# Altium schematic symbol library MMT_Resistors.SchLib: 82 symbols
Pins are listed as number, name and electrical type; pins without a type are passive.

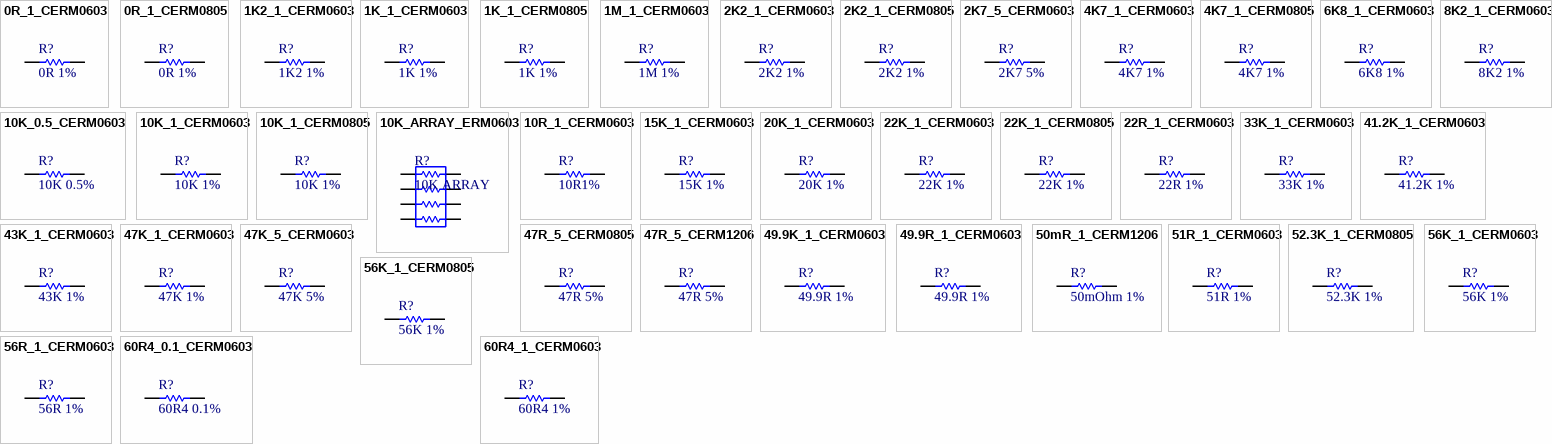
[diagram p0: symbols 0R_1_CERM0603 to 60R4_1_CERM0603]

## 0R_1_CERM0603
designator R?, comment 0R 1%
RES 0 OHM 1/10W 1% 0603 SMD; Part Number: RC0603FR-070RL; Manufacturer: Yageo; VN Price: 36; Voltage/Wattage: 100mW; Ex Price: 0.005; VN Supplier: https://thegioiic.com/products/dien-tro-0-ohm-0603-1; Value: 0R; Tolerance: 1%; Package: 0603 (1608 metric); Ex Supplier: https://www.mouser.vn/ProductDetail/Yageo/RC0603FR-070RL?qs=sGAEpiMZZMvdGkrng054tx7%2F6%252BNA3LAJbOjDgY8S7mQ%3D
footprint RES-SM-0603
pins: 1, 2

## 0R_1_CERM0805
designator R?, comment 0R 1%
RES 0 OHM 1/10W 1% 0805 SMD; Part Number: RC0805FR-070RL; Manufacturer: Yageo; VN Price: 50; Voltage/Wattage: 100mW; Ex Price: 0.009; VN Supplier: https://thegioiic.com/products/dien-tro-0-ohm-0805-1-; Value: 0R; Tolerance: 1%; Package: 0805 (2012 metric); Ex Supplier: https://www.mouser.vn/ProductDetail/Yageo/RC0805FR-070RL?qs=sGAEpiMZZMvdGkrng054tx7%2F6%252BNA3LAJ3XU3yVJUh88%3D
footprint RES-SM-0805
pins: 1, 2

## 1K2_1_CERM0603
designator R?, comment 1K2 1%
RES 1K 2OHM 1/10W 1% 0603 SMD; Part Number: AC0603FR-131K2L; Manufacturer: Yageo; VN Price: 36; Voltage/Wattage: 100mW; Ex Price: 0.1; VN Supplier: https://thegioiic.com/products/dien-tro-1-2k-ohm-0603-1; Value: 1K2; Tolerance: 1%; Package: 0603 (1608 metric); Ex Supplier: https://www.mouser.vn/ProductDetail/Yageo/AC0603FR-131K2L?qs=sGAEpiMZZMu61qfTUdNhG%2FMZXHif3NbI4gsqcVl%252BlvKz4x1EmarUjg%3D%3D
footprint RES-SM-0603
pins: 1, 2

## 1K_1_CERM0603
designator R?, comment 1K 1%
RES 1K OHM 1/10W 1% 0603 SMD; Part Number: AC0603FR-071KL; Manufacturer: Yageo; VN Price: 36; Voltage/Wattage: 100mW; Ex Price: 0.1; VN Supplier: https://thegioiic.com/products/dien-tro-1k-ohm-0603-1; Value: 1K; Tolerance: 1%; Package: 0603 (1608 metric); Ex Supplier: https://www.mouser.vn/ProductDetail/Yageo/AC0603FR-071KL?qs=sGAEpiMZZMtlubZbdhIBIOG3KwTtqrl%2FUZt%252B5hgA%252BDM%3D
footprint RES-SM-0603
pins: 1, 2

## 1K_1_CERM0805
designator R?, comment 1K 1%
RES 1K OHM 1/10W 1% 0805 SMD; Part Number: AA0805FR-071KL; Manufacturer: Yageo; VN Price: 50; Voltage/Wattage: 100mW; Ex Price: 0.1; VN Supplier: https://thegioiic.com/products/dien-tro-1k-ohm-0805-1; Value: 1K; Tolerance: 1%; Package: 0805 (2012 metric); Ex Supplier: https://www.mouser.vn/ProductDetail/Yageo/AA0805FR-071KL?qs=sGAEpiMZZMu61qfTUdNhG3tl7jjxf42uENLG1vBmZyipTIVDlM06hw%3D%3D
footprint RES-SM-0805
pins: 1, 2

## 1M_1_CERM0603
designator R?, comment 1M 1%
RES 1M OHM 1/10W 1% 0603 SMD; Part Number: RC0603FR-071ML; Manufacturer: Yageo; VN Price: 36; Voltage/Wattage: 100mW; Ex Price: 0.1; VN Supplier: https://thegioiic.com/products/dien-tro-1m-ohm-0603-1; Value: 1M; Tolerance: 1%; Package: 0603 (1608 metric); Ex Supplier: https://www.mouser.vn/ProductDetail/Yageo/RC0603FR-071ML?qs=sGAEpiMZZMu61qfTUdNhG5eFuApKbqVd5YtEsnCb1iw%3D
footprint RES-SM-0603
pins: 1, 2

## 2K2_1_CERM0603
designator R?, comment 2K2 1%
RES 2K2 OHM 1/10W 1% 0603 SMD; Part Number: AC0603FR-072K2L; Manufacturer: Yageo; VN Price: 36; Voltage/Wattage: 100mW; Ex Price: 0.1; VN Supplier: https://thegioiic.com/products/dien-tro-2-2k-ohm-0603-1; Value: 2K2; Tolerance: 1%; Package: 0603 (1608 metric); Ex Supplier: https://www.mouser.vn/ProductDetail/Yageo/AC0603FR-072K2L?qs=sGAEpiMZZMu61qfTUdNhG19HzxXL1i6ir83dlzp%2FQxU%3D
footprint RES-SM-0603
pins: 1, 2

## 2K2_1_CERM0805
designator R?, comment 2K2 1%
RES 2K2 OHM 1/10W 1% 0805 SMD; Part Number: RC0805FR-072K2L; Manufacturer: Yageo; VN Price: 50; Voltage/Wattage: 100mW; Ex Price: 0.12; VN Supplier: https://thegioiic.com/products/dien-tro-2-2k-ohm-0805-1; Value: 2K2; Tolerance: 1%; Package: 0805 (2012 metric); Ex Supplier: https://www.mouser.vn/ProductDetail/Yageo/RC0805FR-072K2L?qs=sGAEpiMZZMvdGkrng054t9EEHMEcefnuvPGvb%252BKLvVA%3D
footprint RES-SM-0805
pins: 1, 2

## 2K7_5_CERM0603
designator R?, comment 2K7 5%
RES 2K7 OHM 1/10W 5% 0603 SMD; Part Number: RC0603JR-072K7L; Manufacturer: Yageo; VN Price: 34; Voltage/Wattage: 100mW; Ex Price: 0.1; VN Supplier: https://thegioiic.com/products/dien-tro-2-7k-ohm-0603-5; Value: 2K7; Tolerance: 5%; Package: 0603 (1608 metric); Ex Supplier: https://www.mouser.vn/ProductDetail/Yageo/RC0603JR-072K7L?qs=sGAEpiMZZMu61qfTUdNhG5eFuApKbqVdG3WnDY66KrI%3D
footprint RES-SM-0603
pins: 1, 2

## 4K7_1_CERM0603
designator R?, comment 4K7 1%
RES 4K7 OHM 1/10W 1% 0603 SMD; Part Number: RC0603FR-074K7L; Manufacturer: Yageo; VN Price: 36; Voltage/Wattage: 100mW; Ex Price: 0.1; VN Supplier: https://thegioiic.com/products/dien-tro-4-7k-ohm-0603-1-; Value: 4K7; Tolerance: 1%; Package: 0603 (1608 metric); Ex Supplier: https://www.mouser.vn/ProductDetail/Yageo/RC0603FR-074K7L?qs=sGAEpiMZZMu61qfTUdNhG5eFuApKbqVdTnYbjySMIr8%3D
footprint RES-SM-0603
pins: 1, 2

## 4K7_1_CERM0805
designator R?, comment 4K7 1%
RES 4K7 OHM 1/10W 1% 0805 SMD; Part Number: RT0805FRE074K7L; Manufacturer: Yageo; VN Price: 50; Voltage/Wattage: 100mW; Ex Price: 0.12; VN Supplier: https://thegioiic.com/products/dien-tro-4-7k-ohm-0805-1; Value: 4K7; Tolerance: 1%; Package: 0805 (2012 metric); Ex Supplier: https://www.mouser.vn/ProductDetail/Yageo/RT0805FRE074K7L?qs=sGAEpiMZZMu61qfTUdNhG7XKrGAE6fxHgKwymD3Y2%252Bw%3D
footprint RES-SM-0805
pins: 1, 2

## 6K8_1_CERM0603
designator R?, comment 6K8 1%
RES 6K8 OHM 1/10W 1% 0603 SMD; Part Number: RC0603FR-106K8L; Manufacturer: Yageo; VN Price: 40; Voltage/Wattage: 100mW; Ex Price: 0.1; VN Supplier: https://www.thegioiic.com/products/dien-tro-6-8k-ohm-0603-1; Value: 6K8; Tolerance: 1%; Package: 0603 (1608 metric); Ex Supplier: https://www.mouser.vn/ProductDetail/Yageo/RC0603FR-106K8L?qs=sGAEpiMZZMvdGkrng054t%2FwbPuZfAgrPLFYLdloDxoU%3D
footprint RES-SM-0603
pins: 1, 2

## 8K2_1_CERM0603
designator R?, comment 8K2 1%
RES 8K2 OHM 1/10W 1% 0603 SMD; Part Number: RC0603FR-078K2L; Manufacturer: Yageo; VN Price: 40; Voltage/Wattage: 100mW; Ex Price: 0.1; VN Supplier: https://www.thegioiic.com/products/dien-tro-8-2-kohm-0603-1; Value: 8K2; Tolerance: 1%; Package: 0603 (1608 metric); Ex Supplier: https://www.mouser.vn/ProductDetail/Yageo/RC0603FR-078K2L?qs=sGAEpiMZZMvdGkrng054t3pr%252BPE%2FADjsXR6HcmGfNNM%3D
footprint RES-SM-0603
pins: 1, 2

## 10K_0.5_CERM0603
designator R?, comment 10K 0.5%
RES 10K OHM 1/10W 0.5% 0603 SMD; Part Number: RT0603DRE0710KL; Manufacturer: Yageo; Voltage/Wattage: 100mW; Ex Price: 0.11; Value: 10K; Tolerance: 0.5%; Package: 0603 (1608 metric); Ex Supplier: https://www.mouser.vn/ProductDetail/Yageo/RT0603DRE0710KL?qs=sGAEpiMZZMtlubZbdhIBILjYW2Gkblj8dYrT0Z0ApY0%3D
footprint RES-SM-0603
pins: 1, 2

## 10K_1_CERM0603
designator R?, comment 10K 1%
RES 10K OHM 1/10W 1% 0603 SMD; Part Number: RT0603FRE0710KL; Manufacturer: Yageo; VN Price: 36; Voltage/Wattage: 100mW; Ex Price: 0.1; VN Supplier: https://thegioiic.com/products/dien-tro-10k-ohm-0603-1; Value: 10K; Tolerance: 1%; Package: 0603 (1608 metric); Ex Supplier: https://www.mouser.vn/ProductDetail/Yageo/RT0603FRE0710KL?qs=sGAEpiMZZMtlubZbdhIBILjYW2Gkblj8rjAIWDJaTSM%3D
footprint RES-SM-0603
pins: 1, 2

## 10K_1_CERM0805
designator R?, comment 10K 1%
RES 10K OHM 1/10W 1% 0805 SMD; Part Number: RT0805FRE0710KL; Manufacturer: Yageo; VN Price: 50; Voltage/Wattage: 100mW; Ex Price: 0.12; VN Supplier: https://thegioiic.com/products/dien-tro-10k-ohm-0805-1; Value: 10K; Tolerance: 1%; Package: 0805 (2012 metric); Ex Supplier: https://www.mouser.vn/ProductDetail/Yageo/RT0805FRE0710KL?qs=sGAEpiMZZMu61qfTUdNhGxEjuuBLd0B41oWml1pU2QE%3D
footprint RES-SM-0805
pins: 1, 2

## 10K_ARRAY_ERM0603
designator R?, comment 10K ARRAY
Resistor Networks & Arrays 10K 1% CONVEX SQUARE 4X0603; Part Number: TC164-FR-0710KL; Manufacturer: Yageo; VN Price: 36; Voltage/Wattage: 100mW; Ex Price: 0.1; VN Supplier: https://thegioiic.com/products/dien-tro-10k-ohm-0603-1; Value: 10K; Tolerance: 1%; Package: 0603 (1608 metric); Ex Supplier: https://www.mouser.vn/ProductDetail/Yageo/TC164-FR-0710KL?qs=sGAEpiMZZMvrmc6UYKmaNd7pGS1VRT6X55bWuaFSlts%3D
footprint RES-ARRAY-4
pins: 1, 2, 3, 4, 5, 6, 7, 8

## 10R_1_CERM0603
designator R?, comment 10R1%
RES 10 OHM 1/10W 1% 0603 SMD; Part Number: AC0603FR-0710RL; Manufacturer: Yageo; VN Price: 36; Value: 10R; Voltage/Wattage: 100mW; Ex Price: 0.18; VN Supplier: https://thegioiic.com/products/dien-tro-10-ohm-0603-1; Tolerance: 1%; Package: 0603 (1608 metric); Ex Supplier: https://www.mouser.vn/ProductDetail/Yageo/AC0603FR-0710RL?qs=sGAEpiMZZMtlubZbdhIBIOG3KwTtqrl%2FjyYtvKfV%252Bxs%3D
footprint RES-SM-0603
pins: 1, 2

## 15K_1_CERM0603
designator R?, comment 15K 1%
RES 15K OHM 1/10W 1% 0603 SMD; Part Number: RT0603FRE1315KL; Manufacturer: Yageo; VN Price: 36; Voltage/Wattage: 100mW; Ex Price: 0.19; VN Supplier: https://thegioiic.com/products/dien-tro-15k-ohm-0603-1; Value: 15K; Tolerance: 1%; Package: 0603 (1608 metric); Ex Supplier: https://www.mouser.vn/ProductDetail/Yageo/RT0603FRE1315KL?qs=sGAEpiMZZMu61qfTUdNhGxEjuuBLd0B4ysKBXYMF8dQ%3D
footprint RES-SM-0603
pins: 1, 2

## 20K_1_CERM0603
designator R?, comment 20K 1%
RES 20K OHM 1/8W 1% 0603 SMD; Part Number: RC0603FR-0720KL; Manufacturer: Yageo; VN Price: 40; Voltage/Wattage: 125mW; Ex Price: 0.1; VN Supplier: https://www.thegioiic.com/products/dien-tro-20-kohm-0603-1; Value: 20K; Tolerance: 1%; Package: 0603 (1608 metric); Ex Supplier: https://www.mouser.vn/ProductDetail/Yageo/RC0603FR-0720KL?qs=sGAEpiMZZMvdGkrng054t3pr%252BPE%2FADjsNGcDwJdhVOU%3D
footprint RES-SM-0603
pins: 1, 2

## 22K_1_CERM0603
designator R?, comment 22K 1%
RES 22K OHM 1/8W 1% 0603 SMD; Part Number: ERJ-3EKF2202V; Manufacturer: Panasonic; VN Price: 40; Voltage/Wattage: 125mW; Ex Price: 0.1; VN Supplier: https://www.thegioiic.com/products/dien-tro-22k-ohm-0603-1; Value: 22K; Tolerance: 1%; Package: 0603 (1608 metric); Ex Supplier: https://www.mouser.vn/ProductDetail/Panasonic/ERJ-3EKF2202V?qs=sGAEpiMZZMvdGkrng054tx7%2F6%252BNA3LAJalxol1RpiBw%3D
footprint RES-SM-0603
pins: 1, 2

## 22K_1_CERM0805
designator R?, comment 22K 1%
RES 22K OHM 1/8W 1% 0805 SMD; Part Number: ERJ-6ENF2202V; Manufacturer: Panasonic; VN Price: 50; Voltage/Wattage: 125mW; Ex Price: 0.1; VN Supplier: https://thegioiic.com/products/dien-tro-22k-ohm-0805-1; Value: 22K; Tolerance: 1%; Package: 0805 (2012 mtric); Ex Supplier: https://www.mouser.vn/ProductDetail/Panasonic/ERJ-6ENF2202V?qs=sGAEpiMZZMvdGkrng054tw5%2FFYq5P%2FDoDU00YHoIPHw%3D
footprint RES-SM-0805
pins: 1, 2

## 22R_1_CERM0603
designator R?, comment 22R 1%
RES 22R OHM 1/10W 1% 0603 SMD; Part Number: RC0603FR-0722RL; Manufacturer: Yageo; VN Price: 36; Voltage/Wattage: 100mW; Ex Price: 0.1; VN Supplier: https://thegioiic.com/products/dien-tro-22-ohm-0603-1; Value: 22R; Tolerance: 1%; Package: 0603 (1608 metric); Ex Supplier: https://www.mouser.vn/ProductDetail/Yageo/RC0603FR-0722RL?qs=sGAEpiMZZMvdGkrng054t8Tx25L%252BvTaRjTEDGPLxll8%3D
footprint RES-SM-0603
pins: 1, 2

## 33K_1_CERM0603
designator R?, comment 33K 1%
RES 33K OHM 1/10W 1% 0603 SMD; Part Number: RC0603FR-0733KL; Manufacturer: Yageo; VN Price: 36; Voltage/Wattage: 100mW; Ex Price: 0.1; VN Supplier: https://thegioiic.com/products/dien-tro-33k-ohm-0603-1; Value: 33K; Tolerance: 1%; Package: 0603 (1608 metric); Ex Supplier: https://www.mouser.vn/ProductDetail/Yageo/RC0603FR-0733KL?qs=sGAEpiMZZMu61qfTUdNhG5eFuApKbqVdV6sPUrzO0aQ%3D
footprint RES-SM-0603
pins: 1, 2

## 41.2K_1_CERM0603
designator R?, comment 41.2K 1%
RES 41.2K OHM 1/10W 1% 0603 SMD; Part Number: RC0603FR-1041K2L; Manufacturer: Yageo; Voltage/Wattage: 100mW; Ex Price: 0.1; Value: 41.2K; Tolerance: 1%; Package: 0603 (1608 metric); Ex Supplier: https://www.mouser.vn/ProductDetail/Yageo/RC0603FR-1041K2L?qs=qpJ%252B%252B%252Bdg6p3hFK8vYoxtMQ%3D%3D
footprint RES-SM-0603
pins: 1, 2

## 43K_1_CERM0603
designator R?, comment 43K 1%
RES 43K OHM 1/10W 1% 0603 SMD; Part Number: RC0603FR-0743KL; Manufacturer: Yageo; Voltage/Wattage: 100mW; Ex Price: 0.1; Value: 43K; Tolerance: 1%; Package: 0603 (1608 metric); Ex Supplier: https://www.mouser.vn/ProductDetail/Yageo/RC0603FR-0743KL?qs=sGAEpiMZZMvdGkrng054t8Tx25L%252BvTaRkFGvG%2Fq1sv0%3D
footprint RES-SM-0603
pins: 1, 2

## 47K_1_CERM0603
designator R?, comment 47K 1%
RES 47K OHM 1/10W 1% 0603 SMD; Part Number: AC0603FR-0747KL; Manufacturer: Yageo; VN Price: 36; Voltage/Wattage: 100mW; Ex Price: 0.1; VN Supplier: https://thegioiic.com/products/dien-tro-47k-ohm-0603-1; Value: 47K; Tolerance: 1%; Package: 0603 (1608 metric); Ex Supplier: https://www.mouser.vn/ProductDetail/Yageo/AC0603FR-0747KL?qs=sGAEpiMZZMtlubZbdhIBINBo7nw4llFtxacZ8LVwvMc%3D
footprint RES-SM-0603
pins: 1, 2

## 47K_5_CERM0603
designator R?, comment 47K 5%
RES 47K OHM 1/10W 5% 0603 SMD; Part Number: ERJ-3GEYJ473V; Manufacturer: Panasonic; VN Price: 36; Voltage/Wattage: 100mW; Ex Price: 0.1; VN Supplier: https://thegioiic.com/products/dien-tro-47k-ohm-0603-1; Value: 47K; Tolerance: 5%; Package: 0603 (1608 metric); Ex Supplier: https://www.mouser.vn/ProductDetail/Panasonic/ERJ-3GEYJ473V?qs=sGAEpiMZZMu61qfTUdNhGzRxdwze5h8Zt6u5FYoHorI%3D
footprint RES-SM-0603
pins: 1, 2

## 47R_5_CERM0805
designator R?, comment 47R 5%
RES 47 OHM 1/10W 5% 0805 SMD; Part Number: RT0805FRE0747RL; Manufacturer: Yageo; VN Price: 40; Voltage/Wattage: 125mW; Ex Price: 0.12; VN Supplier: https://thegioiic.com/products/dien-tro-47-ohm-0805-5; Value: 47R; Tolerance: 5%; Package: 0805 (2012 metric); Ex Supplier: https://www.mouser.vn/ProductDetail/Yageo/RT0805FRE0747RL?qs=sGAEpiMZZMu61qfTUdNhG7%2FoSEXwZUWDlLxxqkdgTDw%3D
footprint RES-SM-0805
pins: 1, 2

## 47R_5_CERM1206
designator R?, comment 47R 5%
RES 47 OHM 1/10W 5% 1206 SMD; Part Number: RT1206FRE0747RL; Manufacturer: Yageo; VN Price: 76; Voltage/Wattage: 62.5mW; Ex Price: 0.19; VN Supplier: https://thegioiic.com/products/dien-tro-47-ohm-1206-5; Value: 47R; Tolerance: 5%; Package: 1206 (3216 metric); Ex Supplier: https://www.mouser.vn/ProductDetail/Yageo/RT1206FRE0747RL?qs=sGAEpiMZZMu61qfTUdNhG7%2FoSEXwZUWD80pjFpUgYLc%3D
footprint RES-SM-1206
pins: 1, 2

## 49.9K_1_CERM0603
designator R?, comment 49.9R 1%
RES 49.9K OHM 1/10W 1% 0603 SMD; Part Number: CPF0603F49K9C1; Manufacturer: TE Connectivity / Neohm; VN Price: 40; Voltage/Wattage: 125mW; Ex Price: 0.14; VN Supplier: https://www.thegioiic.com/products/dien-tro-49-9-kohm-0603-1; Value: 49.9K; Tolerance: 1%; Package: 0603 (1608 metric); Ex Supplier: https://www.mouser.vn/ProductDetail/TE-Connectivity-Neohm/CPF0603F49K9C1?qs=o1jQnaWw5FTEPfMvbXTXjQ%3D%3D
footprint RES-SM-0603
pins: 1, 2

## 49.9R_1_CERM0603
designator R?, comment 49.9R 1%
RES 49.9 OHM 1/10W 1% 0603 SMD; Part Number: RT0603FRD0749R9L; Manufacturer: Yageo; VN Price: 40; Voltage/Wattage: 125mW; Ex Price: 0.16; VN Supplier: https://www.thegioiic.com/products/dien-tro-49-9-ohm-0603-1; Value: 49.9R; Tolerance: 1%; Package: 0603 (1608 metric); Ex Supplier: https://www.mouser.vn/ProductDetail/Yageo/RT0603FRD0749R9L?qs=sGAEpiMZZMu61qfTUdNhG%2Ff6%2FsJcuVPBFou5O%2F7N5FzVVPvKnJkoHw%3D%3D
footprint RES-SM-0603
pins: 1, 2

## 50mR_1_CERM1206
designator R?, comment 50mOhm 1%
RES 50 mOHM 500mW 1% 1206 SMD; Part Number: KDV12FR050ET; Manufacturer: Ohmite; Ex Price: 0.1; Value: 50mOhm; Tolerance: 1%; Voltage/Wattage: 500mW; Package: 1206 (3216 metric); Ex Supplier: https://www.mouser.vn/ProductDetail/Ohmite/KDV12FR050ET?qs=sGAEpiMZZMvdGkrng054t7z4BkURc4LzmpK4I%2F1fA6sd%252BLs1VUJHng%3D%3D
footprint RES-SM-1206
pins: 1, 2

## 51R_1_CERM0603
designator R?, comment 51R 1%
RES 51 OHM 1/10W 1% 0603 SMD; Part Number: RC0603FR-0751RL; Manufacturer: Yageo; VN Price: 34; Voltage/Wattage: 100mW; Ex Price: 0.1; VN Supplier: https://thegioiic.com/products/dien-tro-51-ohm-0603-5; Value: 51R; Tolerance: 1%; Package: 0603 (1608 metric); Ex Supplier: https://www.mouser.vn/ProductDetail/Yageo/RC0603FR-0751RL?qs=sGAEpiMZZMu61qfTUdNhG5eFuApKbqVdiaQZYTuEmh8%3D
footprint RES-SM-0603
pins: 1, 2

## 52.3K_1_CERM0805
designator R?, comment 52.3K 1%
RES 52.3K OHM 1/8W 1% 0805 SMD; Part Number: RT0805FRE0752K3L; Manufacturer: Yageo; Voltage/Wattage: 125mW; Ex Price: 0.12; Value: 52.3K; Tolerance: 1%; Package: 0805 (2012 metric); Ex Supplier: https://www.mouser.vn/ProductDetail/Yageo/RT0805FRE0752K3L?qs=sGAEpiMZZMu61qfTUdNhG7%2FoSEXwZUWDgsGqm9SKTW8%3D
footprint RES-SM-0805
pins: 1, 2

## 56K_1_CERM0603
designator R?, comment 56K 1%
RES 56K OHM 1/10W 1% 0603 SMD; Part Number: AC0603FR-1356KL; Manufacturer: Yageo; VN Price: 40; Voltage/Wattage: 100mW; Ex Price: 0.10; VN Supplier: https://www.thegioiic.com/products/dien-tro-56k-ohm-0603-1; Value: 56K; Tolerance: 1%; Package: 0603 (1608 metric); Ex Supplier: https://www.mouser.vn/ProductDetail/Yageo/AC0603FR-1356KL?qs=sGAEpiMZZMvdGkrng054twlFPaARTH9FGagRoyH5U5W9MDzO1zi%2FNg%3D%3D
footprint RES-SM-0603
pins: 1, 2

## 56K_1_CERM0805
designator R?, comment 56K 1%
RES 56K OHM 1/10W 1% 0805 SMD; Part Number: AC0603FR-1356KL; Manufacturer: Yageo; VN Price: 50; Voltage/Wattage: 100mW; Ex Price: 0.10; VN Supplier: https://thegioiic.com/products/dien-tro-56k-ohm-0805-5; Value: 56K; Tolerance: 1%; Package: 0805 (2012 metric); Ex Supplier: https://www.mouser.vn/ProductDetail/Yageo/AC0603FR-1356KL?qs=sGAEpiMZZMvdGkrng054t7e9%2F3Fc9aBD5rY%252B0EwGpzm7vQU3nlU20g%3D%3D
footprint RES-SM-0805
pins: 1, 2

## 56R_1_CERM0603
designator R?, comment 56R 1%
RES 56 OHM 1/10W 1% 0603 SMD; Part Number: AC0603FR-0756RL; Manufacturer: Yageo; VN Price: 36; Voltage/Wattage: 100mW; Ex Price: 0.1; VN Supplier: https://thegioiic.com/products/dien-tro-56-ohm-0603-1; Value: 56R; Tolerance: 1%; Package: 0603 (1608 metric); Ex Supplier: https://www.mouser.vn/ProductDetail/Yageo/AC0603FR-0756RL?qs=sGAEpiMZZMtlubZbdhIBINBo7nw4llFtR2Mv3CYI3yI%3D
footprint RES-SM-0603
pins: 1, 2

## 60R4_0.1_CERM0603
designator R?, comment 60R4 0.1%
RES 60.4 OHM 1/10W 0.1% 0603 SMD; Part Number: ERA-3AEB60R4V; Manufacturer: Panasonic; Voltage/Wattage: 100mW; Ex Price: 0.35; Value: 60R4; Tolerance: 0.1%; Package: 0603 (1608 metric); Ex Supplier: https://www.mouser.vn/ProductDetail/Panasonic/ERA-3AEB60R4V?qs=sGAEpiMZZMu61qfTUdNhGzeCTBd%2FZfsoAbvYoorO%252BBU%3D
footprint RES-SM-0603
pins: 1, 2

## 60R4_1_CERM0603
designator R?, comment 60R4 1%
RES 60.4 OHM 1/10W 1% 0603 SMD; Part Number: RC0603FR-0760R4L; Manufacturer: Yageo; Voltage/Wattage: 100mW; Ex Price: 0.1; Value: 60R4; Tolerance: 1%; Package: 0603 (1608 metric); Ex Supplier: https://www.mouser.vn/ProductDetail/Yageo/RC0603FR-0760R4L?qs=sGAEpiMZZMu61qfTUdNhG4JucpvLNRyOEeLiezcR%252Brk%3D
footprint RES-SM-0603
pins: 1, 2

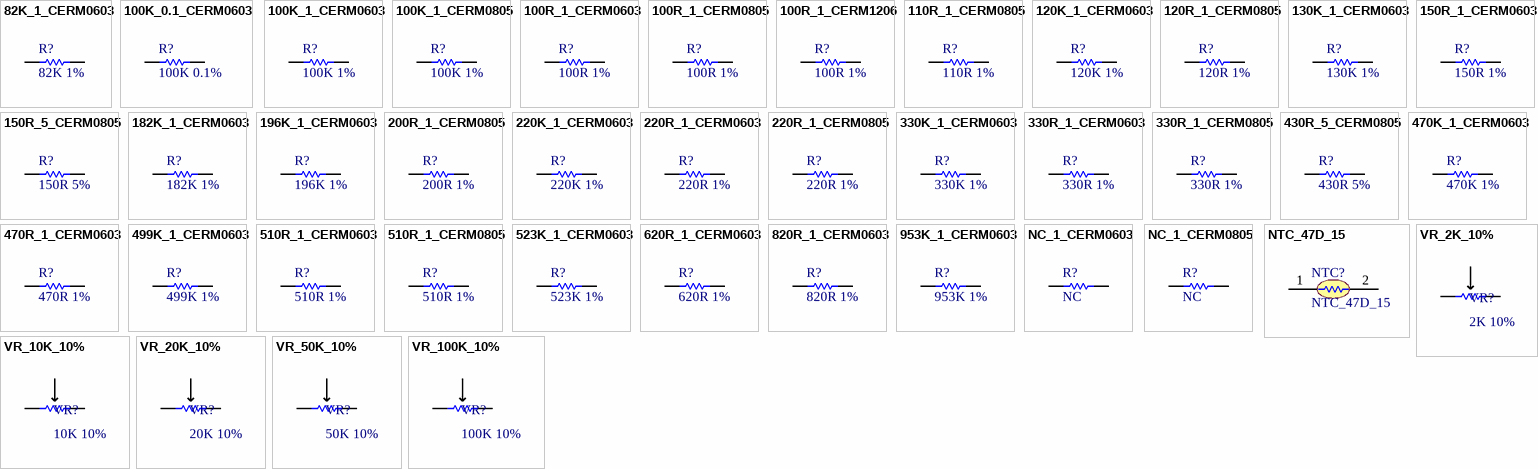
[diagram p1: symbols 82K_1_CERM0603 to VR_100K_10%]

## 82K_1_CERM0603
designator R?, comment 82K 1%
RES 82K OHM 1/10W 1% 0603 SMD; Part Number: RC0603FR-0782KL; Manufacturer: Yageo; VN Price: 40; Voltage/Wattage: 100mW; Ex Price: 0.10; VN Supplier: https://www.thegioiic.com/products/dien-tro-82k-ohm-0603-1; Value: 82K; Tolerance: 1%; Package: 0603 (1608 metric); Ex Supplier: https://www.mouser.vn/ProductDetail/Yageo/RC0603FR-0782KL?qs=sGAEpiMZZMvdGkrng054t0Ql6vgZwrVhQn6gfQaEhVI%3D
footprint RES-SM-0603
pins: 1, 2

## 100K_0.1_CERM0603
designator R?, comment 100K 0.1%
RES 100K OHM 1/10W 0.1% 0603 SMD; Part Number: ERA-3AEB104V; Manufacturer: Panasonic; Voltage/Wattage: 100mW; Ex Price: 0.62; Value: 100K; Tolerance: 0.1%; Package: 0603 (1608 metric); Ex Supplier: https://www.mouser.vn/ProductDetail/71-TNPW0805100KBEEA
footprint RES-SM-0603
pins: 1, 2

## 100K_1_CERM0603
designator R?, comment 100K 1%
RES 100K OHM 1/10W 1% 0603 SMD; Part Number: AC0603FR-07100KL; Manufacturer: Yageo; VN Price: 36; Voltage/Wattage: 100mW; Ex Price: 0.1; VN Supplier: https://thegioiic.com/products/dien-tro-100k-ohm-0603-1; Value: 100K; Tolerance: 1%; Package: 0603 (1608 metric); Ex Supplier: https://www.mouser.vn/ProductDetail/Yageo/AC0603FR-07100KL?qs=sGAEpiMZZMtlubZbdhIBIOG3KwTtqrl%2FwTAeuYTOFRQ%3D
footprint RES-SM-0603
pins: 1, 2

## 100K_1_CERM0805
designator R?, comment 100K 1%
RES 100K OHM 1/8W 1% 0805 SMD; Part Number: AC0805FR-7W100KL; Manufacturer: Yageo; VN Price: 40; Voltage/Wattage: 125mW; Ex Price: 0.1; VN Supplier: https://thegioiic.com/products/dien-tro-100k-ohm-0805-5; Value: 100K; Tolerance: 1%; Package: 0805 (2012 metric); Ex Supplier: https://www.mouser.vn/ProductDetail/Yageo/AC0805FR-7W100KL?qs=sGAEpiMZZMvdGkrng054t4v35oYz4BJEPMzT05iJdwKjULuWFXOnIA%3D%3D
footprint RES-SM-0805
pins: 1, 2

## 100R_1_CERM0603
designator R?, comment 100R 1%
RES 100 OHM 1/10W 1% 0603 SMD; Part Number: AC0603FR-13100RL; Manufacturer: Yageo; VN Price: 36; Voltage/Wattage: 100mW; Ex Price: 0.022; VN Supplier: https://thegioiic.com/products/dien-tro-100-ohm-0603-1; Value: 100R; Tolerance: 1%; Package: 0603 (1608 metric); Ex Supplier: https://www.mouser.vn/ProductDetail/Yageo/AC0603FR-13100RL?qs=sGAEpiMZZMu61qfTUdNhG%2FMZXHif3NbI5Fo%252BOTKdpSsQ1btQ5KnC4g%3D%3D
footprint RES-SM-0603
pins: 1, 2

## 100R_1_CERM0805
designator R?, comment 100R 1%
RES 100 OHM 1/10W 1% 0805 SMD; Part Number: CRCW0805100RFKEAC; Manufacturer: Vishay / Dale; VN Price: 36; Voltage/Wattage: 100mW; Ex Price: 0.1; VN Supplier: https://thegioiic.com/products/dien-tro-100-ohm-0603-1; Value: 100R; Tolerance: 1%; Package: 0805 (2012 metric); Ex Supplier: https://www.mouser.vn/ProductDetail/Vishay-Dale/CRCW0805100RFKEAC?qs=sGAEpiMZZMu61qfTUdNhG9bvwnXh9sSracpK%2FGa6jaWjEWD6SWXZlw%3D%3D
footprint RES-SM-0805
pins: 1, 2

## 100R_1_CERM1206
designator R?, comment 100R 1%
RES 100 OHM 1/4W 1% 1206 SMD; Part Number: AC1206FR-10100RL; Manufacturer: Yageo; VN Price: 116; Voltage/Wattage: 250mW; Ex Price: 0.11; VN Supplier: https://thegioiic.com/products/dien-tro-470-ohm-0603-1; Value: 100R; Tolerance: 1%; Package: 1206 (3216 metric); Ex Supplier: https://thegioiic.com/products/dien-tro-100-ohm-1206-1
footprint RES-SM-1206
pins: 1, 2

## 110R_1_CERM0805
designator R?, comment 110R 1%
RES 110 OHM 1/8W 1% 0805 SMD; Part Number: RT0805FRE07110RL; Manufacturer: Yageo; VN Price: 40; Voltage/Wattage: 125mW; Ex Price: 0.12; VN Supplier: https://thegioiic.com/products/dien-tro-110-ohm-0805-5; Value: 110R; Tolerance: 1%; Package: 0805 (2012 metric); Ex Supplier: https://www.mouser.vn/ProductDetail/Yageo/RT0805FRE07110RL?qs=sGAEpiMZZMtlubZbdhIBIK36V95%2FrXmtpVWy4wjIihM%3D
footprint RES-SM-0805
pins: 1, 2

## 120K_1_CERM0603
designator R?, comment 120K 1%
RES 120K OHM 1/10W 1% 0603 SMD; Part Number: ERJ-3EKF1203V; Manufacturer: Panasonic; VN Price: 36; Voltage/Wattage: 100mW; Ex Price: 0.1; VN Supplier: https://thegioiic.com/products/dien-tro-120k-ohm-0603-1; Value: 120K; Tolerance: 1%; Package: 0603 (1608 metric); Ex Supplier: https://www.mouser.vn/ProductDetail/Panasonic/ERJ-3EKF1203V?qs=sGAEpiMZZMu61qfTUdNhG6gKAQVNBKOoJBA6oYw2dr8%3D
footprint RES-SM-0603
pins: 1, 2

## 120R_1_CERM0805
designator R?, comment 120R 1%
RES 120 OHM 1/8W 1% 0805 SMD; Part Number: RC0805FR-07120RL; Manufacturer: Yageo; VN Price: 40; Voltage/Wattage: 125mW; Ex Price: 0.12; VN Supplier: https://thegioiic.com/products/dien-tro-120-ohm-0805-5; Value: 120R; Tolerance: 1%; Package: 0805 (2012 metric); Ex Supplier: https://www.mouser.vn/ProductDetail/Yageo/RC0805FR-07120RL?qs=sGAEpiMZZMvdGkrng054t8Tx25L%252BvTaRzcdZIgz1A9Y%3D
footprint RES-SM-0805
pins: 1, 2

## 130K_1_CERM0603
designator R?, comment 130K 1%
RES 130K OHM 1/10W 1% 0603 SMD; Part Number: ERJ-3EKF1303V; Manufacturer: Panasonic; VN Price: 36; Voltage/Wattage: 100mW; Ex Price: 0.1; VN Supplier: https://thegioiic.com/products/dien-tro-130k-ohm-0603-1; Value: 130K; Tolerance: 1%; Package: 0603 (1608 metric); Ex Supplier: https://www.mouser.vn/ProductDetail/Panasonic/ERJ-3EKF1303V?qs=sGAEpiMZZMu61qfTUdNhG6gKAQVNBKOou9ve2PmmvQo%3D
footprint RES-SM-0603
pins: 1, 2

## 150R_1_CERM0603
designator R?, comment 150R 1%
RES 150 OHM 1/10W 1% 0603 SMD; Part Number: RT0603FRE07150RL; Manufacturer: Yageo; VN Price: 36; Voltage/Wattage: 100mW; Ex Price: 0.19; VN Supplier: https://thegioiic.com/products/dien-tro-150-ohm-0603-1; Value: 150R; Tolerance: 1%; Package: 0603 (1608 metric); Ex Supplier: https://www.mouser.vn/ProductDetail/Yageo/RT0603FRE07150RL?qs=sGAEpiMZZMu61qfTUdNhGxEjuuBLd0B4O65COrQS694%3D
footprint RES-SM-0603
pins: 1, 2

## 150R_5_CERM0805
designator R?, comment 150R 5%
RES 150 OHM 1/10W 5% 0805 SMD; Part Number: RT0805FRE07150RL; Manufacturer: Yageo; VN Price: 40; Voltage/Wattage: 100mW; Ex Price: 0.12; VN Supplier: https://thegioiic.com/products/dien-tro-150-ohm-0805-5; Value: 150R; Tolerance: 5%; Package: 0805 (2012 metric); Ex Supplier: https://www.mouser.vn/ProductDetail/Yageo/RT0805FRE07150RL?qs=sGAEpiMZZMu61qfTUdNhGxEjuuBLd0B4fB5OA91vaXU%3D
footprint RES-SM-0805
pins: 1, 2

## 182K_1_CERM0603
designator R?, comment 182K 1%
RES 182K OHM 1/10W 1% 0603 SMD; Part Number: RC0603FR-07182KL; Manufacturer: Yageo; Voltage/Wattage: 100mW; Ex Price: 0.1; Value: 182K; Tolerance: 1%; Package: 0603 (1608 metric); Ex Supplier: https://www.mouser.vn/ProductDetail/Yageo/RC0603FR-07182KL?qs=sGAEpiMZZMvdGkrng054t8Tx25L%252BvTaRoShu0djGNWI%3D
footprint RES-SM-0603
pins: 1, 2

## 196K_1_CERM0603
designator R?, comment 196K 1%
RES 196K OHM 1/10W 1% 0603 SMD; Part Number: AC0603FR-07196KL; Manufacturer: Yageo; VN Price: 36; Voltage/Wattage: 100mW; Ex Price: 0.1; VN Supplier: https://thegioiic.com/products/dien-tro-196k-ohm-0805-1; Value: 196K; Tolerance: 1%; Package: 0603 (1608 metric); Ex Supplier: https://www.mouser.vn/ProductDetail/Yageo/AC0603FR-07196KL?qs=sGAEpiMZZMvdGkrng054t7zOzNqIRvGcDKAaRjA6DfA%3D
footprint RES-SM-0603
pins: 1, 2

## 200R_1_CERM0805
designator R?, comment 200R 1%
RES 200 OHM 1/10W 1% 0805 SMD; Part Number: RC0805FR-07200RL; Manufacturer: Yageo; VN Price: 40; Value: 150R; Voltage/Wattage: 125mW; Ex Price: 0.12; VN Supplier: https://thegioiic.com/products/dien-tro-200-ohm-0805-5; Tolerance: 1%; Package: 0805 (2012 metric); Ex Supplier: https://www.mouser.vn/ProductDetail/Yageo/RC0805FR-07200RL?qs=sGAEpiMZZMtlubZbdhIBIBEZimkhVqQ42eelWaFV0dg%3D
footprint RES-SM-0805
pins: 1, 2

## 220K_1_CERM0603
designator R?, comment 220K 1%
RES 220K OHM 1/10W 1% 0603 SMD; Part Number: RC0603FR-07220KL; Manufacturer: Yageo; VN Price: 40; Voltage/Wattage: 100mW; Ex Price: 0.1; VN Supplier: https://www.thegioiic.com/products/dien-tro-220k-ohm-0603-1; Value: 220K; Tolerance: 1%; Package: 0603 (1608 metric); Ex Supplier: https://www.mouser.vn/ProductDetail/Yageo/RC0603FR-07220KL?qs=sGAEpiMZZMvdGkrng054t0Ql6vgZwrVhHSe8oTGidPI%3D
footprint RES-SM-0603
pins: 1, 2

## 220R_1_CERM0603
designator R?, comment 220R 1%
RES 220 OHM 1/10W 1% 0603 SMD; Part Number: RC0603FR-07220RL; Manufacturer: Yageo; VN Price: 36; Voltage/Wattage: 100mW; Ex Price: 0.018; VN Supplier: https://thegioiic.com/products/dien-tro-220-ohm-0603-1; Value: 220R; Tolerance: 1%; Package: 0603 (1608 metric); Ex Supplier: https://www.mouser.vn/ProductDetail/Yageo/RC0603FR-07220RL?qs=sGAEpiMZZMu61qfTUdNhG5eFuApKbqVdAMojVXVlmuY%3D
footprint RES-SM-0603
pins: 1, 2

## 220R_1_CERM0805
designator R?, comment 220R 1%
RES 220 OHM 1/10W 1% 0805 SMD; Part Number: ERJ-6ENF2200V; Manufacturer: Panasonic; VN Price: 36; Voltage/Wattage: 100mW; Ex Price: 0.01; VN Supplier: https://thegioiic.com/products/dien-tro-220-ohm-0603-1; Value: 220R; Tolerance: 1%; Package: 0805 (2012 metric); Ex Supplier: https://www.mouser.vn/ProductDetail/Panasonic/ERJ-6ENF2200V?qs=sGAEpiMZZMu61qfTUdNhG6gKAQVNBKOoC6ge8UYY0eY%3D
footprint RES-SM-0805
pins: 1, 2

## 330K_1_CERM0603
designator R?, comment 330K 1%
RES 330K OHM 1/10W 1% 0603 SMD; Part Number: RC0603FR-07330KL; Manufacturer: Yageo; VN Price: 36; Voltage/Wattage: 100mW; Ex Price: 0.1; VN Supplier: https://thegioiic.com/products/dien-tro-330k-ohm-0603-1; Value: 330K; Tolerance: 1%; Package: 0603 (1608 metric); Ex Supplier: https://www.mouser.vn/ProductDetail/Yageo/RC0603FR-07330KL?qs=sGAEpiMZZMu61qfTUdNhG5eFuApKbqVd9EZ%2FRvE%2FTOk%3D
footprint RES-SM-0603
pins: 1, 2

## 330R_1_CERM0603
designator R?, comment 330R 1%
RES 330 OHM 1/10W 1% 0603 SMD; Part Number: AC0603FR-07330RL; Manufacturer: Yageo; VN Price: 36; Voltage/Wattage: 100mW; Ex Price: 0.022; VN Supplier: https://thegioiic.com/products/dien-tro-330-ohm-0603-1; Value: 330R; Tolerance: 1%; Package: 0603 (1608 metric); Ex Supplier: https://www.mouser.vn/ProductDetail/Yageo/AC0603FR-07330RL?qs=sGAEpiMZZMtlubZbdhIBINBo7nw4llFtXIi1au8fd4g%3D
footprint RES-SM-0603
pins: 1, 2

## 330R_1_CERM0805
designator R?, comment 330R 1%
RES 330 OHM 1/10W 1% 0805 SMD; Part Number: ERJ-6ENF3300V; Manufacturer: Panasonic; VN Price: 50; Voltage/Wattage: 100mW; Ex Price: 0.11; VN Supplier: https://thegioiic.com/products/dien-tro-330-ohm-0805-1; Value: 330R; Tolerance: 1%; Package: 0805 (2012 metric); Ex Supplier: https://www.mouser.vn/ProductDetail/Panasonic/ERJ-6ENF3300V?qs=sGAEpiMZZMu61qfTUdNhG6gKAQVNBKOod3JD8gTgVJA%3D
footprint RES-SM-0805
pins: 1, 2

## 430R_5_CERM0805
designator R?, comment 430R 5%
RES 430 OHM 1/10W 5% 0805 SMD; Part Number: ERJ-6GEYJ431V; Manufacturer: Panasonic; VN Price: 40; Voltage/Wattage: 100mW; Ex Price: 0.1; VN Supplier: https://thegioiic.com/products/dien-tro-430-ohm-0805-5; Value: 430R; Tolerance: 5%; Package: 0805 (2012 metric); Ex Supplier: https://www.mouser.vn/ProductDetail/Panasonic/ERJ-6GEYJ431V?qs=sGAEpiMZZMu61qfTUdNhG6gKAQVNBKOoylslA0N39ZE%3D
footprint RES-SM-0805
pins: 1, 2

## 470K_1_CERM0603
designator R?, comment 470K 1%
RES 470K OHM 1/10W 1% 0603 SMD; Part Number: AC0603FR-07470KL; Manufacturer: Yageo; VN Price: 36; Voltage/Wattage: 100mW; Ex Price: 0.1; VN Supplier: https://thegioiic.com/products/dien-tro-470k-ohm-0603-1; Value: 470K; Tolerance: 1%; Package: 0603 (1608 metric); Ex Supplier: https://www.mouser.vn/ProductDetail/Yageo/AC0603FR-07470KL?qs=sGAEpiMZZMtlubZbdhIBINBo7nw4llFtIuQwEGrhTBY%3D
footprint RES-SM-0603
pins: 1, 2

## 470R_1_CERM0603
designator R?, comment 470R 1%
RES 470 OHM 1/10W 1% 0603 SMD; Part Number: RC0603FR-07470RL; Manufacturer: Yageo; VN Price: 36; Voltage/Wattage: 100mW; Ex Price: 0.1; VN Supplier: https://thegioiic.com/products/dien-tro-470-ohm-0603-1; Value: 470R; Tolerance: 1%; Package: 0603 (1608 metric); Ex Supplier: https://www.mouser.vn/ProductDetail/Yageo/RC0603FR-07470RL?qs=sGAEpiMZZMu61qfTUdNhG5eFuApKbqVduZgyRcGeh7I%3D
footprint RES-SM-0603
pins: 1, 2

## 499K_1_CERM0603
designator R?, comment 499K 1%
RES 499K OHM 1/10W 1% 0603 SMD; Part Number: RC0603FR-07499KL; Manufacturer: Yageo; VN Price: 36; Voltage/Wattage: 100mW; Ex Price: 0.1; Value: 499K; Tolerance: 1%; Package: 0603 (1608 metric); Ex Supplier: https://www.mouser.vn/ProductDetail/Yageo/RC0603FR-07499KL?qs=sGAEpiMZZMvdGkrng054t8Tx25L%252BvTaRTh7mPDktNj0%3D
footprint RES-SM-0603
pins: 1, 2

## 510R_1_CERM0603
designator R?, comment 510R 1%
RES 510 OHM 1/10W 1% 0603 SMD; Part Number: RC0603FR-13510RL; Manufacturer: Yageo; VN Price: 50; Voltage/Wattage: 100mW; Ex Price: 0.12; VN Supplier: https://www.thegioiic.com/products/dien-tro-510-ohm-0603-1; Value: 510R; Tolerance: 1%; Package: 0603 (1608 metric); Ex Supplier: https://www.mouser.vn/ProductDetail/Yageo/RC0603FR-13510RL?qs=sGAEpiMZZMvdGkrng054tz1y1XEHv7sN1Q6262RU0wmIGhpik57Rug%3D%3D
footprint RES-SM-0603
pins: 1, 2

## 510R_1_CERM0805
designator R?, comment 510R 1%
RES 510 OHM 1/10W 1% 0805 SMD; Part Number: RC0805FR-07510RL; Manufacturer: Yageo; VN Price: 50; Voltage/Wattage: 100mW; Ex Price: 0.12; VN Supplier: https://thegioiic.com/products/dien-tro-510-ohm-0805-5; Value: 510R; Tolerance: 1%; Package: 0805 (2012 metric); Ex Supplier: https://www.mouser.vn/ProductDetail/Yageo/RC0805FR-07510RL?qs=sGAEpiMZZMvdGkrng054t8AJgcdMkx7x06kVse4iON8%3D
footprint RES-SM-0805
pins: 1, 2

## 523K_1_CERM0603
designator R?, comment 523K 1%
RES 523K OHM 1/10W 1% 0603 SMD; Part Number: RC0603FR-07523KL; Manufacturer: Yageo; VN Price: 36; Voltage/Wattage: 100mW; Ex Price: 0.005; Value: 523K; Tolerance: 1%; Package: 0603 (1608 metric); Ex Supplier: https://www.mouser.vn/ProductDetail/Yageo/RC0603FR-07523KL?qs=sGAEpiMZZMvdGkrng054t5AEBFBrDLdDeP1a%252BWLd3%252Bo%3D
footprint RES-SM-0603
pins: 1, 2

## 620R_1_CERM0603
designator R?, comment 620R 1%
RES 620 OHM 1/10W 1% 0603 SMD; Part Number: RC0603FR-07620RL; Manufacturer: Yageo; VN Price: 50; Voltage/Wattage: 100mW; Ex Price: 0.1; VN Supplier: https://thegioiic.com/products/dien-tro-620-ohm-0805-1; Value: 620R; Tolerance: 1%; Package: 0603 (1608 metric); Ex Supplier: https://www.mouser.vn/ProductDetail/Yageo/RC0603FR-07620RL?qs=sGAEpiMZZMvdGkrng054t8Tx25L%252BvTaRnWoVxSfn71c%3D
footprint RES-SM-0603
pins: 1, 2

## 820R_1_CERM0603
designator R?, comment 820R 1%
RES 820 OHM 1/10W 1% 0603 SMD; Part Number: AC0603FR-13820RL; Manufacturer: Yageo; VN Price: 50; Voltage/Wattage: 100mW; Ex Price: 0.1; VN Supplier: https://www.thegioiic.com/products/dien-tro-820-ohm-0603-5; Value: 820R; Tolerance: 1%; Package: 0603 (1608 metric); Ex Supplier: https://www.mouser.vn/ProductDetail/Yageo/AC0603FR-13820RL?qs=sGAEpiMZZMvdGkrng054tz1y1XEHv7sNE0ygiEzgCbXKW%252BrEU0gN5g%3D%3D
footprint RES-SM-0603
pins: 1, 2

## 953K_1_CERM0603
designator R?, comment 953K 1%
RES 953K OHM 1/10W 1% 0603 SMD; Part Number: RC0603FR-07953KL; Manufacturer: Yageo; VN Price: 36; Voltage/Wattage: 100mW; Ex Price: 0.1; Value: 953K; Tolerance: 1%; Package: 0603 (1608 metric); Ex Supplier: https://www.mouser.vn/ProductDetail/Yageo/RC0603FR-07953KL?qs=sGAEpiMZZMvdGkrng054tx7%2F6%252BNA3LAJ%252BFxly5hN7z0%3D
footprint RES-SM-0603
pins: 1, 2

## NC_1_CERM0603
designator R?, comment NC
RES NC OHM 1/10W 1% 0603 SMD; Voltage/Wattage: 100mW; VN Price: NC; Value: NC; Tolerance: NC; Package: 0603 (1608 metric); Part Number: NC; Manufacturer: NC; Ex Price: NC
footprint RES-SM-0603
footprint RES-SM-0603 - RF
pins: 1, 2

## NC_1_CERM0805
designator R?, comment NC
RES NC OHM 1/10W 1% 0805 SMD; Voltage/Wattage: 100mW; VN Price: NC; Value: NC; Tolerance: NC; Package: 0805 (2012 metric); Part Number: NC; Manufacturer: NC; Ex Price: NC
footprint RES-SM-0805
footprint RES-SM-0603 - RF
pins: 1, 2

## NTC_47D_15
designator NTC?
Inrush Current Limiters 16mm 47ohms 3A INRSH CURR LIMITER; Manufacturer: Ametherm; Part Number: SL15 47003; Ex Price: 0.87; VN Price: 3000; Tolerance: 20%; Value: 47ohm; Ex Supplier: https://www.mouser.vn/ProductDetail/Ametherm/SL15-47003?qs=VFU%2FnhgRIqCAvUgFhWRbmA%3D%3D; VN Supplier: https://banlinhkien.vn/goods-5858-dien-tro-nhiet-ntc-47d-15.html; Voltage/Wattage: 3A
footprint NTC-15mm
pins: 1, 2

## VR_2K_10%
designator VR?, comment 2K 10%
Variable resistor 2K 10%; Part Number: CT94EW202; Manufacturer: Nidec Copal Electronics; VN Price: 1700; Voltage/Wattage: 500mW; Ex Price: 1.55; VN Supplier: https://www.thegioiic.com/products/3296w-202-bien-tro-2k-ohm-tinh-chinh-top; Value: 2K; Tolerance: 10%; Ex Supplier: https://www.digikey.com/product-detail/en/nidec-copal-electronics/CT94EW202/CT94EW202-ND/738411
footprint VR_TC
pins: 1, 2, 3

## VR_10K_10%
designator VR?, comment 10K 10%
Variable resistor 10K 10%; Part Number: PV36W103C01B00; Manufacturer: TE Connectivity; VN Price: 1700; Voltage/Wattage: 500mW; Ex Price: 1.5; VN Supplier: https://www.thegioiic.com/products/3296w-103-bien-tro-10k-ohm-tinh-chinh-top; Value: 10K; Tolerance: 10%; Ex Supplier: https://www.digikey.com/products/en?keywords=PV36W103C01B00
footprint VR_TC
pins: 1, 2, 3

## VR_20K_10%
designator VR?, comment 20K 10%
Variable resistor 20K 10%; Part Number: PV36W203C01B00; Manufacturer: Bourns Inc.; VN Price: 1700; Ex Price: 1.5; VN Supplier: https://www.thegioiic.com/products/3296w-203-bien-tro-20k-ohm-tinh-chinh-top; Value: 20K; Tolerance: 10%; Ex Supplier: https://www.digikey.com/product-detail/en/bourns-inc/PV36W203C01B00/490-2881-ND/666508
footprint VR_TC
pins: 1, 2, 3

## VR_50K_10%
designator VR?, comment 50K 10%
Variable resistor 50K 10%; Part Number: PV36W503C01B00; Manufacturer: Bourns Inc.; VN Price: 1700; Ex Price: 1.5; VN Supplier: https://www.thegioiic.com/products/3296w-503-bien-tro-50k-ohm-tinh-chinh-top; Value: 50K; Tolerance: 10%; Ex Supplier: https://www.digikey.com/products/en?keywords=PV36W503C01B00
footprint VR_TC
pins: 1, 2, 3

## VR_100K_10%
designator VR?, comment 100K 10%
Variable resistor 100K 10%; Part Number: PV36W104C01B00; Manufacturer: Bourns Inc.; VN Price: 1700; Ex Price: 1.5; VN Supplier: https://www.thegioiic.com/products/3296w-503-bien-tro-50k-ohm-tinh-chinh-top; Value: 100K; Tolerance: 10%; Ex Supplier: https://www.thegioiic.com/products/3296w-104-bien-tro-100k-ohm-tinh-chinh-top
footprint VR_TC
pins: 1, 2, 3

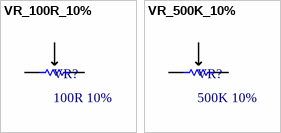
[diagram p2: symbols VR_100R_10% to VR_500K_10%]

## VR_100R_10%
designator VR?, comment 100R 10%
Variable resistor 100R 10%; Part Number: PV36W101C01B00; Manufacturer: Bourns Inc.; VN Price: 1700; Voltage/Wattage: 500mW; Ex Price: 1.5; VN Supplier: https://www.thegioiic.com/products/3296w-202-bien-tro-2k-ohm-tinh-chinh-top; Value: 100R; Tolerance: 10%; Ex Supplier: https://www.digikey.com/products/en?keywords=PV36W101C01B00
footprint VR_TC
pins: 1, 2, 3

## VR_500K_10%
designator VR?, comment 500K 10%
Variable resistor 500K 10%; Part Number: PV36W504C01B00; Manufacturer: Bourns Inc.; VN Price: 1700; Ex Price: 1.5; VN Supplier: https://www.thegioiic.com/products/3296w-504-bien-tro-500k-ohm-tinh-chinh-top; Value: 500K; Tolerance: 10%; Ex Supplier: https://www.digikey.com/products/en?keywords=PV36W504C01B00
footprint VR_TC
pins: 1, 2, 3